# Altium footprint library STM32F429_CORE V2.0.PcbLib: 20 footprints (part 2 of 2)
Each footprint in its own frame and in the unit in brackets; x right, y up, seen from the top. Pads: shape width x height; smd on the part's side, far side on the other; paste and mask are expansions set on the pad; w line width, h text height; cw(c..) or ccw(c..) is an arc to the next point about the centre after c.
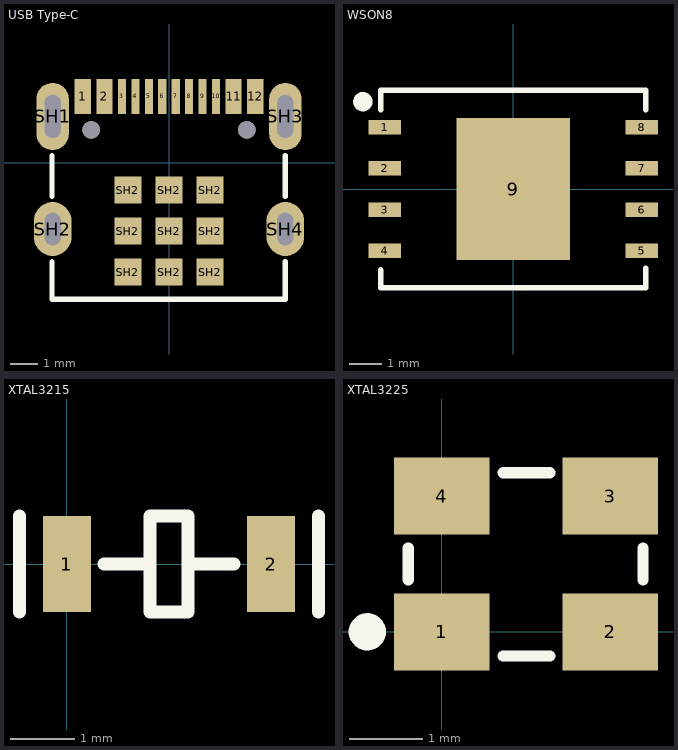
[diagram p1: the footprints below, top view; thin cyan lines are the x and y axes]

## USB Type-C [mm]
pads (27):
  rect 0.6x1.3 smd mask+0.064: 1(-3.2,2.462) 2(-2.4,2.462) 11(2.4,2.462) 12(3.2,2.462)
  rect 0.3x1.3 smd mask+0.064: 3(-1.75,2.462) 4(-1.25,2.462) 5(-0.75,2.462) 6(-0.25,2.463) 7(0.25,2.463) 8(0.75,2.462) 9(1.25,2.462) 10(1.75,2.462)
  oval 1.2x2.5 hole 0.6 slot 1.6 at 90 deg: SH1(-4.32,1.718) SH3(4.32,1.717)
  oval 1.4x2 hole 0.6 slot 1.2 at 90 deg: SH2(-4.32,-2.462) SH4(4.32,-2.462)
  rect 1x1 smd mask+0: SH2(-1.524,-4.064) SH2(-1.524,-2.54) SH2(-1.524,-1.016) SH2(0,-4.064) SH2(0,-2.54) SH2(0,-1.016) SH2(1.524,-4.064)
  rect 1x1 smd paste+0 mask+0: SH2(1.524,-2.54) SH2(1.524,-1.016)
  round 0.65 hole 0.65 unplated mask+0: ""(-2.89,1.218) ""(2.89,1.218)
Top Overlay:
  lines w0.2: -4.343,-3.683 -4.343,-5.066 4.32,-5.066 4.32,-3.683 ; -4.343,-1.245 -4.343,0.254 ; 4.318,-1.245 4.318,0.254

## WSON8 [mm]
pads (9):
  rect 1x0.45 smd: 1(-3.975,1.905) 2(-3.975,0.635) 3(-3.975,-0.635) 4(-3.975,-1.905) 5(3.975,-1.905) 6(3.975,-0.635) 7(3.975,0.635) 8(3.975,1.905)
  rect 3.5x4.4 smd: 9(0,0)
Top Overlay:
  circle w0.3: c-4.65,2.7 r0.15
  lines w0.178: -4.1,-2.504 -4.1,-3.05 4.1,-3.05 4.1,-2.449 ; -4.1,2.449 -4.1,3.05 4.1,3.05 ; 4.1,2.449 4.1,3.048
Mechanical 15:
  lines w0.1: -0.5,0 0.5,0 ; 0,-0.5 0,0.5

## XTAL3215 [mm]
pads (2):
  rect 0.75x1.5 smd: 1(0,0) 2(3.2,0)
Top Overlay:
  lines w0.203: -0.742,-0.75 -0.742,0.75 ; 0.578,0 1.3,0 ; 2,0 2.617,0 ; 3.942,-0.75 3.942,0.75 ; 1.3,-0.75 1.3,0.75 1.9,0.75 1.9,-0.75 1.3,-0.75

## XTAL3225 [mm]
pads (4):
  rect 1.3x1.05 smd: 1(0,0) 2(2.3,0) 3(2.3,1.85) 4(0,1.85)
Top Overlay:
  circle w0.254: c-1.016,0 r0.127
  lines w0.152: -0.457,0.711 -0.457,1.143 ; 0.838,-0.33 1.473,-0.33 ; 0.838,2.17 1.473,2.17 ; 2.743,0.711 2.743,1.143